# EAGLE library part CAS-220TA (library upenn_switch)
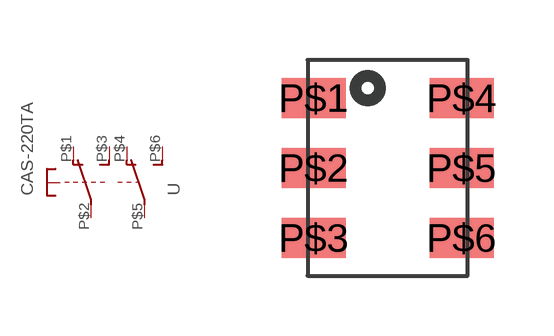
[diagram p0: symbol with the pads of CAS-220TA; footprint CAS-220TA]

Designator prefix -

## CAS-220TA  [CAS-220TA]
P$1  1  pas
P$2  2  pas
P$3  3  pas
P$4  4  pas
P$5  5  pas
P$6  6  pas

## Footprint CAS-220TA (pad centres in mm)
smd 1.6 x 1: P$1 -1.85,1.75; P$2 -1.85,0; P$3 -1.85,-1.75; P$4 1.85,1.75; P$5 1.85,0; P$6 1.85,-1.75